# Altium schematic symbol library Power Supplies.SchLib: 34 symbols
Pins are listed as number, name and electrical type; pins without a type are passive.

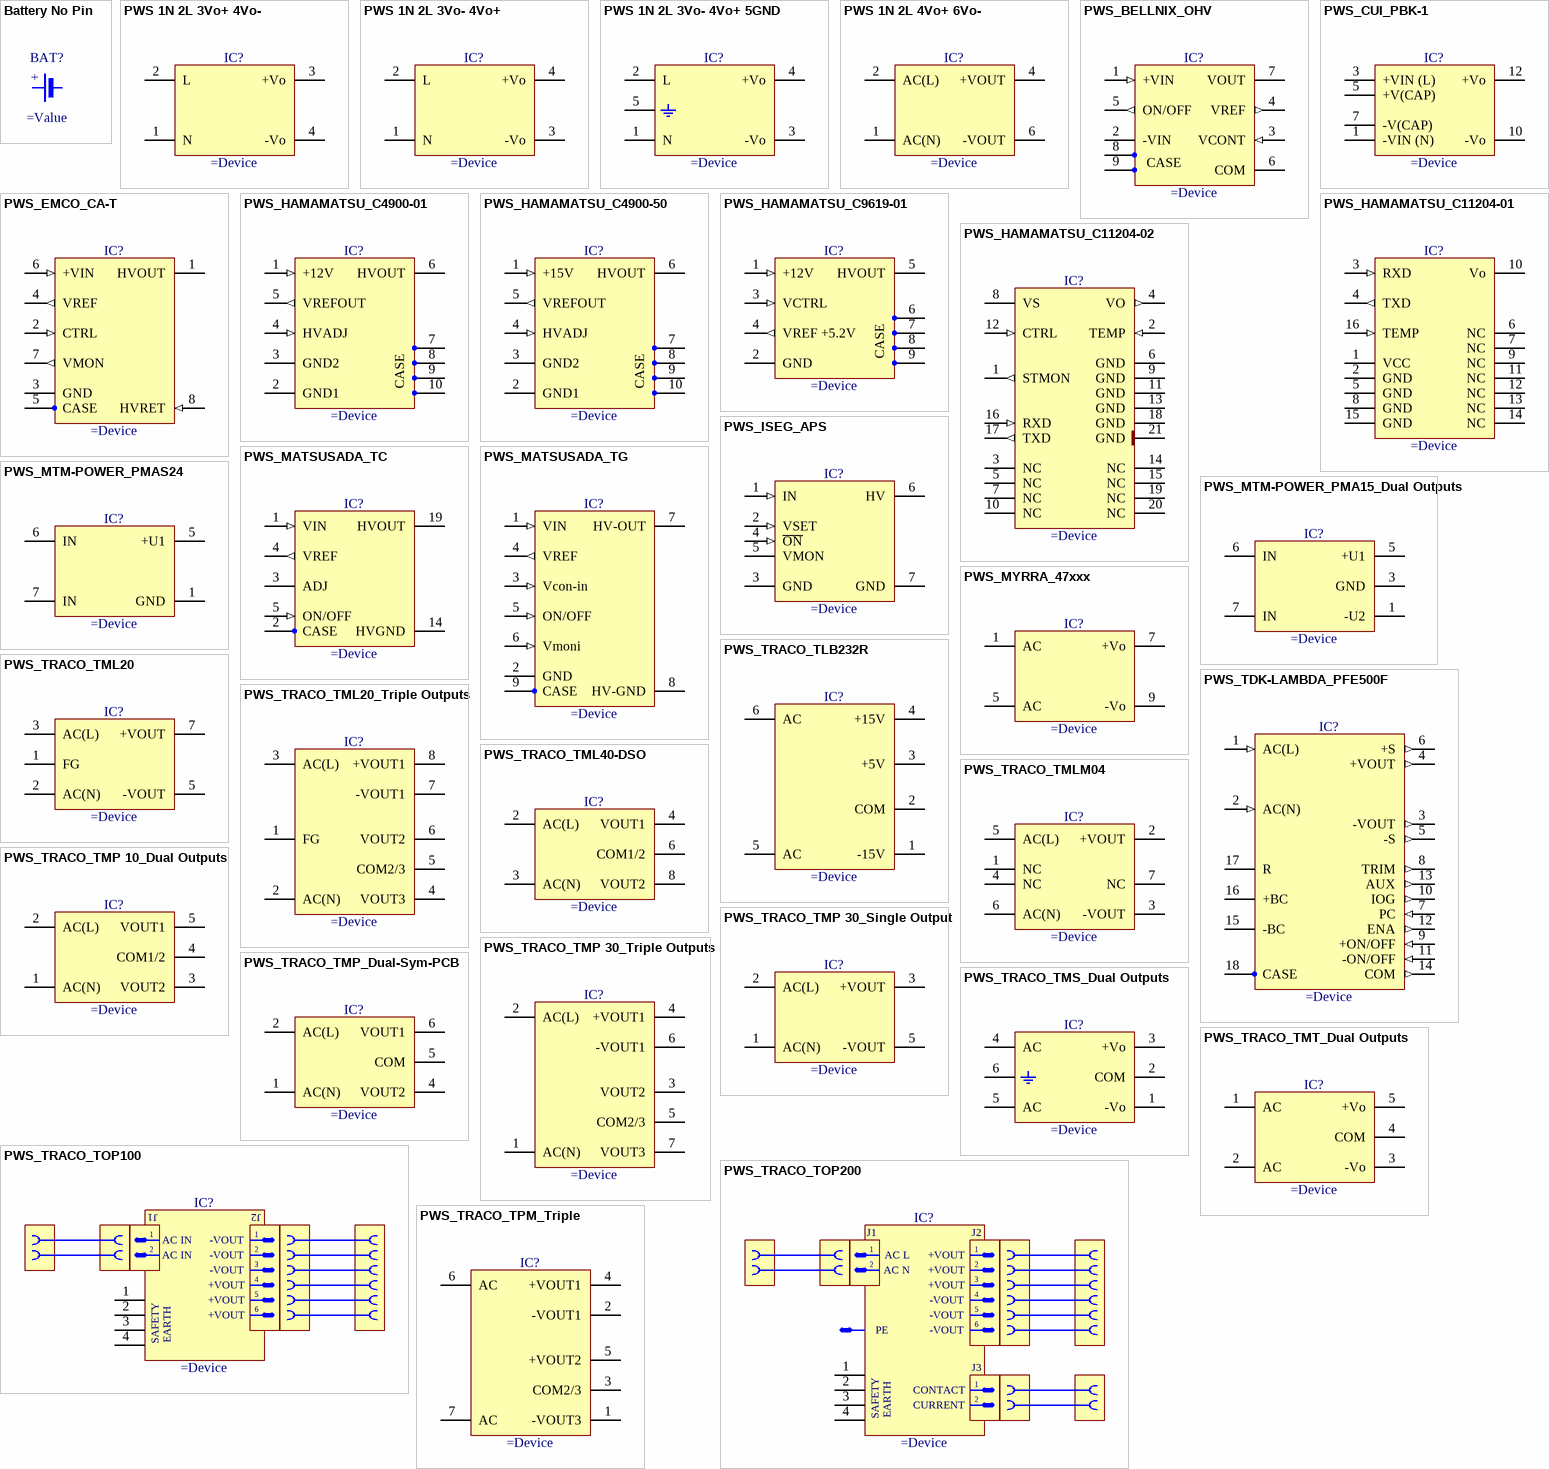
[diagram p0: symbols Battery No Pin to PWS_TRACO_TPM_Triple]

## Battery No Pin
designator BAT?
Battery Without pin for Socket
text: +

## PWS 1N 2L 3Vo+ 4Vo-
designator IC?
Power Supply
pins: 1 N (power), 2 L (power), 3 +Vo (power), 4 -Vo (power)

## PWS 1N 2L 3Vo- 4Vo+
designator IC?
Power Supply
pins: 1 N (power), 2 L (power), 3 -Vo (power), 4 +Vo (power)

## PWS 1N 2L 3Vo- 4Vo+ 5GND
designator IC?
Power Supply
pins: 1 N (power), 2 L (power), 3 -Vo (power), 4 +Vo (power), 5 EARTH (power)

## PWS 1N 2L 4Vo+ 6Vo-
designator IC?
Power Supply
pins: 1 AC(N) (power), 2 AC(L) (power), 4 +VOUT (power), 6 -VOUT (power)

## PWS_BELLNIX_OHV
designator IC?
BELLNIX OHV Series, Ultracompact, Adjustable Output High-Voltage Power Supply
pins: 1 +VIN (in), 2 -VIN (power), 3 VCONT (in), 4 VREF (out), 5 ON/OFF (out), 6 COM (power), 7 VOUT (power), 8 CASE (power), 9 CASE (power)

## PWS_CUI_PBK-1
designator IC?
85-264VAC To 5VDC(200mA) 1W Power Supply
pins: 1 -VIN (N) (power), 3 +VIN (L) (power), 5 +V(CAP) (power), 7 -V(CAP) (power), 10 -Vo (power), 12 +Vo (power)

## PWS_EMCO_CA-T
designator IC?
BELLNIX OHV Series, EMCO CA-T Series, High Performance, Precision Regulated, High-Voltage Power Supply , Body 45.72x28.45mm
pins: 1 HVOUT (power), 2 CTRL (in), 3 GND (power), 4 VREF (out), 5 CASE (power), 6 +VIN (in), 7 VMON (out), 8 HVRET (in)

## PWS_HAMAMATSU_C4900-01
designator IC?
HAMAMATSU C4900 RS Series, High Voltage Power Supply
pins: 1 +12V (in), 2 GND1 (power), 3 GND2 (power), 4 HVADJ (in), 5 VREFOUT (out), 6 HVOUT (power), 7 CASE (power), 8 CASE (power), 9 CASE (power), 10 CASE (power)

## PWS_HAMAMATSU_C4900-50
designator IC?
HAMAMATSU C4900 RS Series, High Voltage Power Supply
pins: 1 +15V (in), 2 GND1 (power), 3 GND2 (power), 4 HVADJ (in), 5 VREFOUT (out), 6 HVOUT (power), 7 CASE (power), 8 CASE (power), 9 CASE (power), 10 CASE (power)

## PWS_HAMAMATSU_C9619-01
designator IC?
HAMAMATSU C9619 Series, High Voltage Power Supply
pins: 1 +12V (in), 2 GND (power), 3 VCTRL (in), 4 VREF +5.2V (out), 5 HVOUT (power), 6 CASE (power), 7 CASE (power), 8 CASE (power), 9 CASE (power)

## PWS_HAMAMATSU_C11204-01
designator IC?
50V to 90V Bias Power Supply with Built-in High Precision Temperature Compensation for MPPCs (Multi-Pixel Photon Counter)
pins: 1 VCC (power), 2 GND (power), 3 RXD (in), 4 TXD (out), 5 GND (power), 6 NC, 7 NC, 8 GND (power), 9 NC, 10 Vo (power), 11 NC, 12 NC, 13 NC, 14 NC, 15 GND (power), 16 TEMP (in)

## PWS_HAMAMATSU_C11204-02
designator IC?
Bias Power Supply with Built-in High Precision Temperature Compensation for MPPCs
pins: 1 STMON (out), 2 TEMP (in), 3 NC, 4 VO (out), 5 NC, 6 GND (power), 7 NC, 8 VS (power), 9 GND (power), 10 NC, 11 GND (power), 12 CTRL (in), 13 GND (power), 14 NC, 15 NC, 16 RXD (in), 17 TXD (out), 18 GND (power), 19 NC, 20 NC, 21 GND (power)

## PWS_ISEG_APS
designator IC?
1W High Voltage Power Supply APS-series
pins: 1 IN (in), 2 VSET (in), 3 GND (power), 4 ~{ON} (in), 5 VMON, 6 HV (power), 7 GND (power)

## PWS_MATSUSADA_TC
designator IC?
Power Supply
pins: 1 VIN (in), 2 CASE, 3 ADJ, 4 VREF (out), 5 ON/OFF (in), 14 HVGND (power), 19 HVOUT (power)

## PWS_MATSUSADA_TG
designator IC?
Power Supply
pins: 1 VIN (in), 2 GND (power), 3 Vcon-in (in), 4 VREF (out), 5 ON/OFF (in), 6 Vmoni (in), 7 HV-OUT (power), 8 HV-GND (power), 9 CASE

## PWS_MTM-POWER_PMA15_Dual Outputs
designator IC?
15W AC/DC Power Module, PMA 15 Series
pins: 1 -U2 (power), 3 GND (power), 5 +U1 (power), 6 IN (power), 7 IN (power)

## PWS_MTM-POWER_PMAS24
designator IC?
24W AC/DC Power Module, PMAS24 Series
pins: 1 GND (power), 5 +U1 (power), 6 IN (power), 7 IN (power)

## PWS_MYRRA_47xxx
designator IC?
Single Output Power Supply
pins: 1 AC (power), 5 AC (power), 7 +Vo (power), 9 -Vo (power)

## PWS_TDK-LAMBDA_PFE500F
designator IC?
85-264VAC To 28VDC(18A) 500W Single Output Power Module
pins: 1 AC(L) (in), 2 AC(N) (in), 3 -VOUT (out), 4 +VOUT (out), 5 -S (out), 6 +S (out), 7 PC (in), 8 TRIM (out), 9 +ON/OFF (in), 10 IOG (out), 11 -ON/OFF (in), 12 ENA (out), 13 AUX (out), 14 COM (out), 15 -BC, 16 +BC, 17 R, 18 CASE

## PWS_TRACO_TLB232R
designator IC?
Power Supply TLB Serie, Triple Output +5V, +15V -15V
pins: 1 -15V (power), 2 COM (power), 3 +5V (power), 4 +15V (power), 5 AC (power), 6 AC (power)

## PWS_TRACO_TML20
designator IC?
TML 20 Series, 20W Power Supply
pins: 1 FG (power), 2 AC(N) (power), 3 AC(L) (power), 5 -VOUT (power), 7 +VOUT (power)

## PWS_TRACO_TML20_Triple Outputs
designator IC?
TML 20 Series, 20W Power Supply
pins: 1 FG (power), 2 AC(N) (power), 3 AC(L) (power), 4 VOUT3 (power), 5 COM2/3 (power), 6 VOUT2 (power), 7 -VOUT1 (power), 8 +VOUT1 (power)

## PWS_TRACO_TML40-DSO
designator IC?
TML 40 Series, 40W Power Supply, Dual Sym Outputs
pins: 2 AC(L) (power), 3 AC(N) (power), 4 VOUT1 (power), 6 COM1/2 (power), 8 VOUT2 (power)

## PWS_TRACO_TMLM04
designator IC?
TMLM 04 Series, 4-20W Power Supply
pins: 1 NC, 2 +VOUT (power), 3 -VOUT (power), 4 NC, 5 AC(L) (power), 6 AC(N) (power), 7 NC

## PWS_TRACO_TMP 10_Dual Outputs
designator IC?
TMLP 10 Series, 10W Symetrical Dual Output Power Supply, PCB Version
pins: 1 AC(N) (power), 2 AC(L) (power), 3 VOUT2 (power), 4 COM1/2 (power), 5 VOUT1 (power)

## PWS_TRACO_TMP 30_Single Output
designator IC?
TMLP 30 Series, 30W Dual Outputs Power Supply, PCB Version
pins: 1 AC(N) (power), 2 AC(L) (power), 3 +VOUT (power), 5 -VOUT (power)

## PWS_TRACO_TMP 30_Triple Outputs
designator IC?
TMLP 30 Series, 30W Triple Output Power Supply, PCB Version
pins: 1 AC(N) (power), 2 AC(L) (power), 3 VOUT2 (power), 4 +VOUT1 (power), 5 COM2/3 (power), 6 -VOUT1 (power), 7 VOUT3 (power)

## PWS_TRACO_TMP_Dual-Sym-PCB
designator IC?
Power Supply TMP Serie, Symetrical Dual Output, PCB Version
pins: 1 AC(N) (power), 2 AC(L) (power), 4 VOUT2 (power), 5 COM (power), 6 VOUT1 (power)

## PWS_TRACO_TMS_Dual Outputs
designator IC?
Power Supply
pins: 1 -Vo (power), 2 COM (power), 3 +Vo (power), 4 AC (power), 5 AC (power), 6 EARTH (power)

## PWS_TRACO_TMT_Dual Outputs
designator IC?
Power Supply
pins: 1 AC (power), 2 AC (power), 3 -Vo (power), 4 COM (power), 5 +Vo (power)

## PWS_TRACO_TOP100
designator IC?
TOP 100 Serie, 100W Power Supply
pins: 1 EARTH (power), 2 EARTH (power), 3 EARTH (power), 4 EARTH (power)
text: J1; J2; AC IN; -VOUT; +VOUT; 5; 6; SAFETY

## PWS_TRACO_TOP200
designator IC?
TOP 200 Serie, 200W Power Supply
pins: 1 EARTH (power), 2 EARTH (power), 3 EARTH (power), 4 EARTH (power)
text: J1; J2; AC L; +VOUT; AC N; -VOUT; 5; 6; PE; J3; CONTACT; SAFETY; CURRENT

## PWS_TRACO_TPM_Triple
designator IC?
Power Supply TPM Serie, Triple Output, PCB Version
pins: 1 -VOUT3 (power), 2 -VOUT1 (power), 3 COM2/3 (power), 4 +VOUT1 (power), 5 +VOUT2 (power), 6 AC (power), 7 AC (power)